# EAGLE library part CC2550 (library chipcon-ti)
Single Chip Low Cost Low Power RF-Transmitter frequency band at 2400-2483.5 MHz.
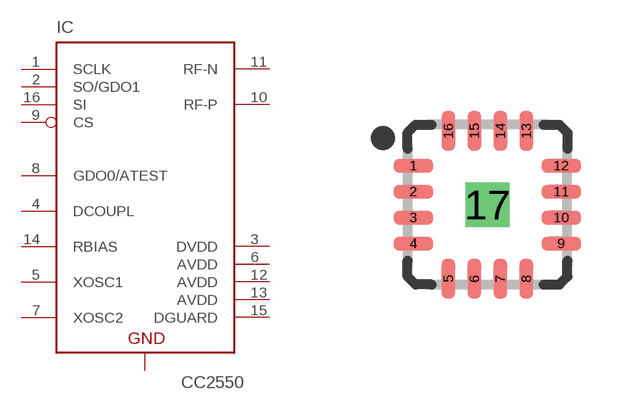
[diagram p10: symbol with the pads of QLP-16; footprint QLP-16]

Designator prefix IC

## CC2550  [QLP-16]
1  SCLK  in
2  SO/GDO1  out
3  DVDD  pwr
4  DCOUPL
5  XOSC1  in
6  AVDD  pwr
7  XOSC2  out
8  GDO0/ATEST  out
9  CS  in
10  RF-P
11  RF-N
12  AVDD  pwr
13  AVDD  pwr
14  RBIAS
15  DGUARD  pwr
16  SI  in
17  GND  pwr

## Footprint QLP-16 (pad centres in mm)
QFN65P400X400X85-17N
smd 1 x 0.35: 1 -1.85,0.975; 2 -1.85,0.325; 3 -1.85,-0.325; 4 -1.85,-0.975; 9 1.85,-0.975; 10 1.85,-0.325; 11 1.85,0.325; 12 1.85,0.975
smd 0.35 x 1: 5 -0.975,-1.85; 6 -0.325,-1.85; 7 0.325,-1.85; 8 0.975,-1.85; 13 0.975,1.85; 14 0.325,1.85; 15 -0.325,1.85; 16 -0.975,1.85
drill 0.6 pad 1 square: 17 0,0